# Altium schematic symbol library ST1480ABDR.SchLib: 1 symbol
Pins are listed as number, name and electrical type; pins without a type are passive.

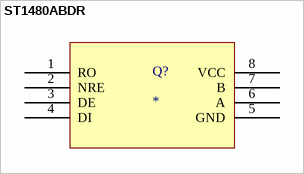
[diagram p0: symbol ST1480ABDR]

## ST1480ABDR
designator Q?
footprint SO8 (Footprint not found)
footprint SO8 (Footprint not found)
footprint SOIC_8 (Footprint not found)
footprint SOIC-8 (Footprint not found)
footprint 8S1_N (8-Pin Small Outline Integrated Circuit 1.27 mm Pitch, IPC Medium Density)
pins: 1 RO, 2 NRE, 3 DE, 4 DI, 5 GND, 6 A, 7 B, 8 VCC